# EAGLE library part SBRIO_BMS_CONN (library formula electric)
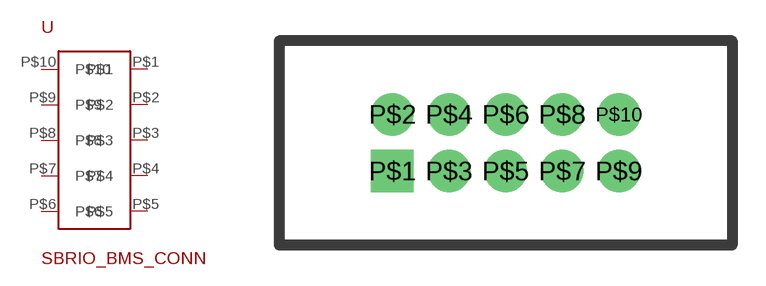
[diagram p14: symbol with the pads of SBRIO_W; footprint SBRIO_W]

Designator prefix -

## SBRIO_BMS_CONN  [SBRIO_W]
P$1  P$1
P$2  P$2
P$3  P$3
P$4  P$4
P$5  P$5
P$6  P$6
P$7  P$7
P$8  P$8
P$9  P$9
P$10  P$10

## Footprint SBRIO_W (pad centres in mm)
SBRIO 10pin .1inch Digikey?: SSW-105-01-G-D-LL-ND
drill 1.27 pad 1.778 square: P$1 -5.08,-1.27
drill 1.27 pad 1.778: P$2 -5.08,1.27; P$3 -2.54,-1.27; P$4 -2.54,1.27; P$5 0,-1.27; P$6 0,1.27; P$7 2.54,-1.27; P$8 2.54,1.27; P$9 5.08,-1.27; P$10 5.08,1.27